# EAGLE library part 4021 (library 4021)
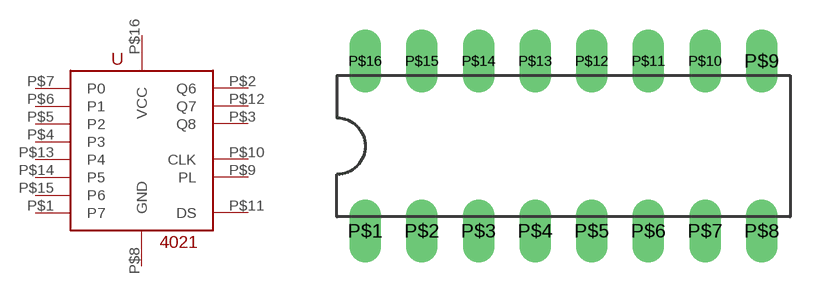
[diagram p0: symbol with the pads of DIP; footprint DIP]

Designator prefix -

## 4021  [DIP]
P$1  P7  in
P$2  Q6
P$3  Q8
P$4  P3
P$5  P2
P$6  P1
P$7  P0
P$8  GND  pwr
P$9  PL
P$10  CLK
P$11  DS
P$12  Q7
P$13  P4
P$14  P5
P$15  P6
P$16  VCC  pwr

## Footprint DIP (pad centres in mm)
drill 0.9 long: P$1 -12.7,-2.54; P$2 -10.16,-2.54; P$3 -7.62,-2.54; P$4 -5.08,-2.54; P$5 -2.54,-2.54; P$6 0,-2.54; P$7 2.54,-2.54; P$8 5.08,-2.54; P$9 5.08,5.08; P$10 2.54,5.08; P$11 0,5.08; P$12 -2.54,5.08; P$13 -5.08,5.08; P$14 -7.62,5.08; P$15 -10.16,5.08; P$16 -12.7,5.08